# Altium schematic symbol library SamacSys.SchLib: 6 symbols
Pins are listed as number, name and electrical type; pins without a type are passive.

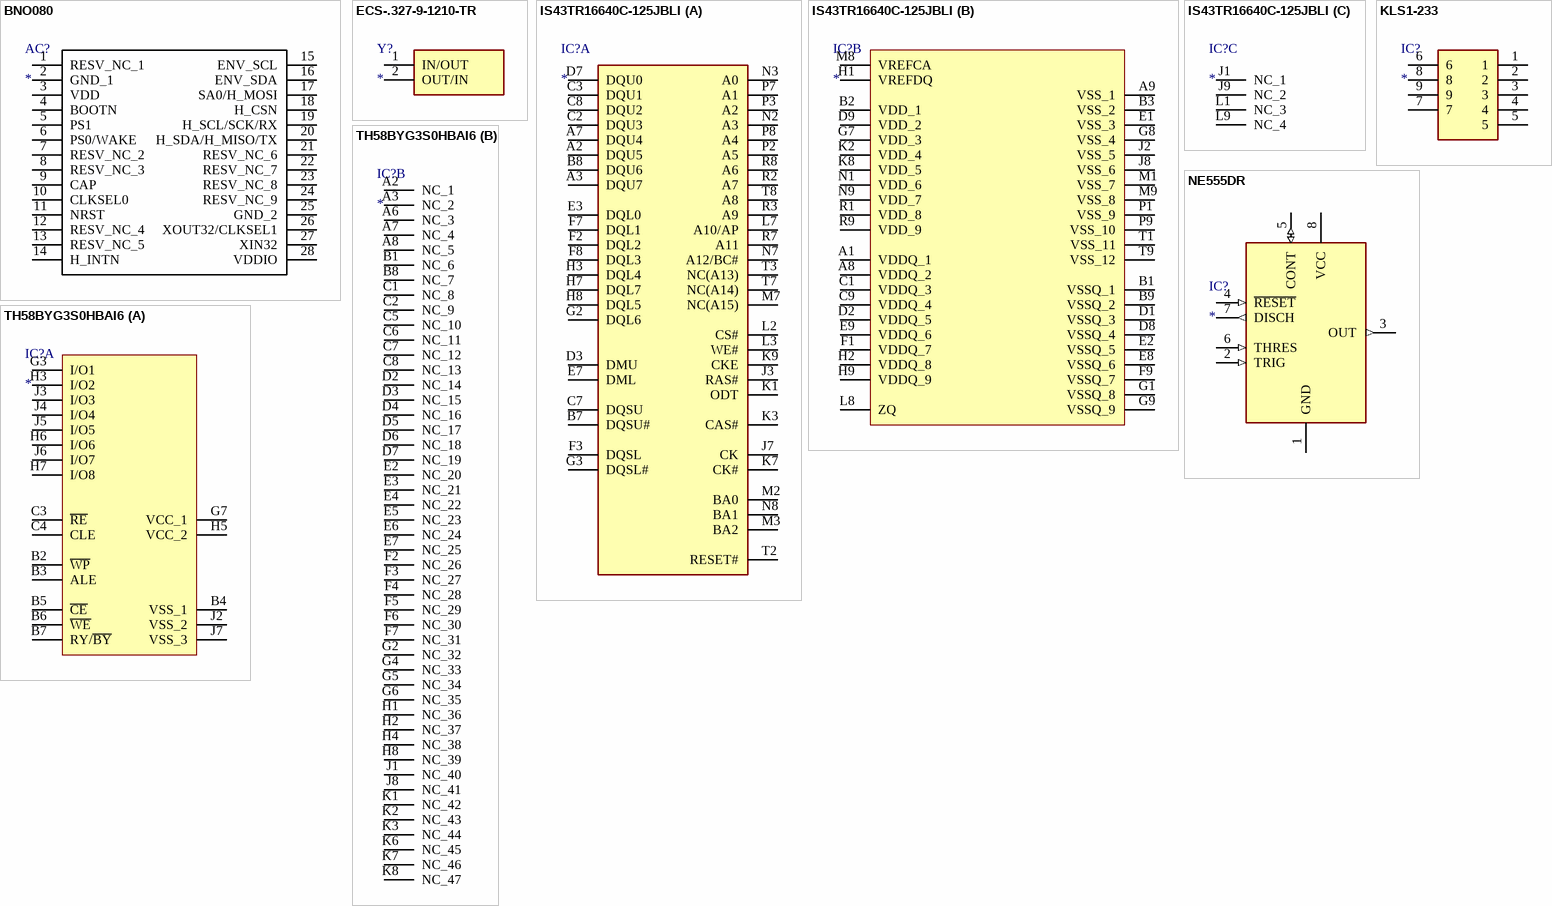
[diagram p0: symbols BNO080 to TH58BYG3S0HBAI6]

## BNO080
designator AC?
Accelerometer; Manufacturer_Name: Hillcrest Laboratories; Manufacturer_Part_Number: BNO080; Datasheet Link: http://www.hillcrestlabs.com/download/5a05f340566d07c196001ec1; Height: 1.18mm
footprint BNO080
pins: 1 RESV_NC_1, 2 GND_1, 3 VDD, 4 BOOTN, 5 PS1, 6 PS0/WAKE, 7 RESV_NC_2, 8 RESV_NC_3, 9 CAP, 10 CLKSEL0, 11 NRST, 12 RESV_NC_4, 13 RESV_NC_5, 14 H_INTN, 15 ENV_SCL, 16 ENV_SDA, 17 SA0/H_MOSI, 18 H_CSN, 19 H_SCL/SCK/RX, 20 H_SDA/H_MISO/TX, 21 RESV_NC_6, 22 RESV_NC_7, 23 RESV_NC_8, 24 RESV_NC_9, 25 GND_2, 26 XOUT32/CLKSEL1, 27 XIN32, 28 VDDIO

## ECS-.327-9-1210-TR
designator Y?
Crystal or Oscillator; Manufacturer_Name: ECS; Manufacturer_Part_Number: ECS-.327-9-1210-TR; Datasheet Link: https://www.ecsxtal.com/store/pdf/ECX-1210.pdf; Height: 0.35mm
footprint ECS32791210TR
pins: 1 IN/OUT, 2 OUT/IN

## IS43TR16640C-125JBLI
designator IC?
Integrated Circuit; Manufacturer_Name: Integrated Silicon Solution Inc.; Manufacturer_Part_Number: IS43TR16640C-125JBLI; Datasheet Link: https://componentsearchengine.com//IS43TR16640C-125JBLI.pdf; Height: 1.2mm; Mouser2 Part Number: 870-16640C-125JBLI; Mouser2 Price/Stock: https://www.mouser.com/Search/Refine.aspx?Keyword=870-16640C-125JBLI
footprint BGA96C80P9X16_900X1300X120
part A pins: A2 DQU5, A3 DQU7, A7 DQU4, B7 DQSU#, B8 DQU6, C2 DQU3, C3 DQU1, C7 DQSU, C8 DQU2, D3 DMU, D7 DQU0, E3 DQL0, E7 DML, F2 DQL2, F3 DQSL, F7 DQL1, F8 DQL3, G2 DQL6, G3 DQSL#, H3 DQL4, H7 DQL7, H8 DQL5, J3 RAS#, J7 CK, K1 ODT, K3 CAS#, K7 CK#, K9 CKE, L2 CS#, L3 WE#, L7 A10/AP, M2 BA0, M3 BA2, M7 NC(A15), N2 A3, N3 A0, N7 A12/BC#, N8 BA1, P2 A5, P3 A2, P7 A1, P8 A4, R2 A7, R3 A9, R7 A11, R8 A6, T2 RESET#, T3 NC(A13), T7 NC(A14), T8 A8
part B pins: A1 VDDQ_1, A8 VDDQ_2, A9 VSS_1, B1 VSSQ_1, B2 VDD_1, B3 VSS_2, B9 VSSQ_2, C1 VDDQ_3, C9 VDDQ_4, D1 VSSQ_3, D2 VDDQ_5, D8 VSSQ_4, D9 VDD_2, E1 VSS_3, E2 VSSQ_5, E8 VSSQ_6, E9 VDDQ_6, F1 VDDQ_7, F9 VSSQ_7, G1 VSSQ_8, G7 VDD_3, G8 VSS_4, G9 VSSQ_9, H1 VREFDQ, H2 VDDQ_8, H9 VDDQ_9, J2 VSS_5, J8 VSS_6, K2 VDD_4, K8 VDD_5, L8 ZQ, M1 VSS_7, M8 VREFCA, M9 VSS_8, N1 VDD_6, N9 VDD_7, P1 VSS_9, P9 VSS_10, R1 VDD_8, R9 VDD_9, T1 VSS_11, T9 VSS_12
part C pins: J1 NC_1, J9 NC_2, L1 NC_3, L9 NC_4

## KLS1-233
designator IC?
Integrated Circuit; Manufacturer_Name: KLS Electronic; Manufacturer_Part_Number: KLS1-233; Description: Micro USB Connector With B Type Female SMT; Datasheet Link: http://www.klsele.com/admin/product_upload/20140626092713KLS1-233.pdf; Height: 2mm
footprint KLS1233
pins: 1, 2, 3, 4, 5, 6, 7, 8, 9

## NE555DR
designator IC?
Integrated Circuit; Manufacturer_Name: Texas Instruments; Manufacturer_Part_Number: NE555DR; Datasheet Link: http://www.ti.com/lit/ds/symlink/ne555.pdf; Height: 1.75mm; Mouser Part Number: 595-NE555DR; Mouser Price/Stock: https://www.mouser.com/Search/Refine.aspx?Keyword=595-NE555DR; RS Part Number: 1218414; RS Price/Stock: http://uk.rs-online.com/web/p/products/1218414
footprint SOIC127P600X175-8N
pins: 1 GND (power), 2 TRIG (in), 3 OUT (out), 4 ~{RESET} (in), 5 CONT (io), 6 THRES (in), 7 DISCH (out), 8 VCC (power)

## TH58BYG3S0HBAI6
designator IC?
Integrated Circuit; Manufacturer_Name: Toshiba; Manufacturer_Part_Number: TH58BYG3S0HBAI6; Datasheet Link: https://ru.mouser.com/datasheet/2/1034/tosc_s_a0007398948_1-2295676.pdf; Height: 1mm; Mouser Part Number: 757-TH58BYG3S0HBAI6; Mouser Price/Stock: https://www.mouser.com/Search/Refine.aspx?Keyword=757-TH58BYG3S0HBAI6
footprint BGA67C80P8X10_650X800X100
part A pins: B2 ~{WP}, B3 ALE, B4 VSS_1, B5 ~{CE}, B6 ~{WE}, B7 RY/~{BY}, C3 ~{RE}, C4 CLE, G3 I/O1, G7 VCC_1, H3 I/O2, H5 VCC_2, H6 I/O6, H7 I/O8, J2 VSS_2, J3 I/O3, J4 I/O4, J5 I/O5, J6 I/O7, J7 VSS_3
part B pins: A2 NC_1, A3 NC_2, A6 NC_3, A7 NC_4, A8 NC_5, B1 NC_6, B8 NC_7, C1 NC_8, C2 NC_9, C5 NC_10, C6 NC_11, C7 NC_12, C8 NC_13, D2 NC_14, D3 NC_15, D4 NC_16, D5 NC_17, D6 NC_18, D7 NC_19, E2 NC_20, E3 NC_21, E4 NC_22, E5 NC_23, E6 NC_24, E7 NC_25, F2 NC_26, F3 NC_27, F4 NC_28, F5 NC_29, F6 NC_30, F7 NC_31, G2 NC_32, G4 NC_33, G5 NC_34, G6 NC_35, H1 NC_36, H2 NC_37, H4 NC_38, H8 NC_39, J1 NC_40, J8 NC_41, K1 NC_42, K2 NC_43, K3 NC_44, K6 NC_45, K7 NC_46, K8 NC_47